# Altium footprint library AD9245BCPZ-40.PcbLib: 1 footprints
Each footprint in its own frame and in the unit in brackets; x right, y up, seen from the top. Pads: shape width x height; smd on the part's side, far side on the other; paste and mask are expansions set on the pad; w line width, h text height; cw(c..) or ccw(c..) is an arc to the next point about the centre after c.
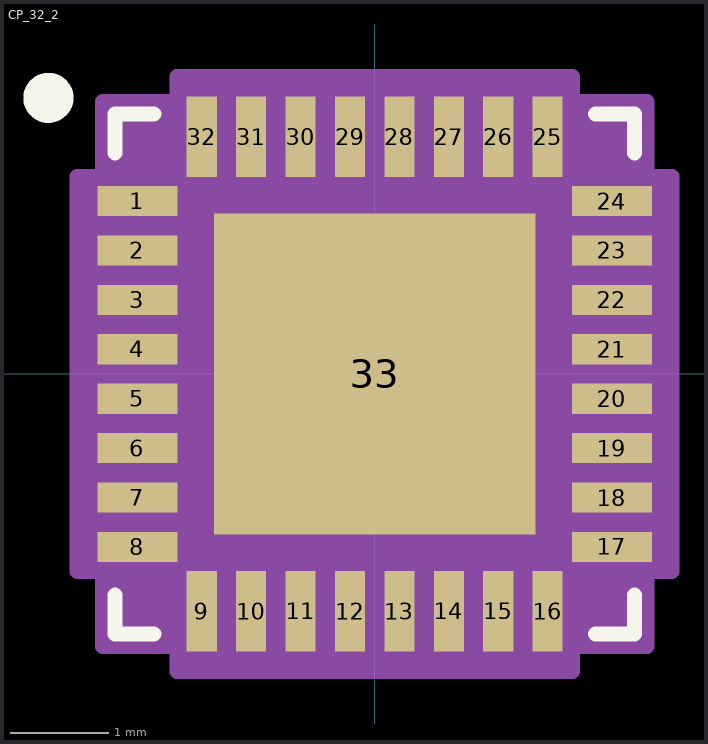
[diagram p0: the footprint, top view; thin cyan lines are the x and y axes]

## CP_32_2 [mil]
pads (33):
  rect 32x12 smd paste+0 mask+0: 1(-94.5,68.9) 2(-94.5,49.21) 3(-94.5,29.53) 4(-94.5,9.84) 5(-94.5,-9.84) 6(-94.5,-29.53) 7(-94.5,-49.21) 8(-94.5,-68.9) 17(94.5,-68.9) 18(94.5,-49.21) 19(94.5,-29.53) 20(94.5,-9.84) 21(94.5,9.84) 22(94.5,29.53) 23(94.5,49.21) 24(94.5,68.9)
  rect 12x32 smd paste+0 mask+0: 9(-68.9,-94.5) 10(-49.21,-94.5) 11(-29.53,-94.5) 12(-9.84,-94.5) 13(9.84,-94.5) 14(29.53,-94.5) 15(49.21,-94.5) 16(68.9,-94.5) 25(68.9,94.5) 26(49.21,94.5) 27(29.53,94.5) 28(9.84,94.5) 29(-9.84,94.5) 30(-29.53,94.5) 31(-49.21,94.5) 32(-68.9,94.5)
  rect 128x128 smd paste-63.5 mask+0: 33(0,0)
Top Overlay:
  circle w10: c-130,110 r5
  lines w6: -103.5,-88 -103.5,-103.5 -88,-103.5 ; -103.5,88 -103.5,103.5 -88,103.5 ; 88,-103.5 103.5,-103.5 103.5,-88 ; 88,103.5 103.5,103.5 103.5,88
Top Paste:
  region: 60.06,-3.94 3.94,-3.94 3.94,-60.06 60.06,-60.06
  region: 60.06,60.06 3.94,60.06 3.94,3.94 60.06,3.94
  region: -3.94,-3.94 -60.06,-3.94 -60.06,-60.06 -3.94,-60.06
  region: -3.94,60.06 -60.06,60.06 -60.06,3.94 -3.94,3.94
Mechanical 13:
  lines w1: -98.5,48.5 -48.5,98.5 ; -98.5,-98.5 -98.5,98.5 98.5,98.5 98.5,-98.5 -98.5,-98.5 ; -98.5,-74.9 -98.5,-62.9 -98.5,-74.9 ; -98.5,-55.21 -98.5,-43.21 -98.5,-55.21 ; -98.5,-35.53 -98.5,-23.53 -98.5,-35.53 ; -98.5,-15.84 -98.5,-3.84 -98.5,-15.84 ; -98.5,3.84 -98.5,15.84 -98.5,3.84 ; -98.5,23.53 -98.5,35.53 -98.5,23.53 ; -98.5,43.21 -98.5,55.21 -98.5,43.21 ; -98.5,62.9 -98.5,74.9 -98.5,62.9 ; -74.9,-98.5 -62.9,-98.5 -74.9,-98.5 ; -74.9,98.5 -62.9,98.5 -74.9,98.5 ; -55.21,-98.5 -43.21,-98.5 -55.21,-98.5 ; -55.21,98.5 -43.21,98.5 -55.21,98.5 ; -35.53,-98.5 -23.53,-98.5 -35.53,-98.5 ; -35.53,98.5 -23.53,98.5 -35.53,98.5 ; -15.84,-98.5 -3.84,-98.5 -15.84,-98.5 ; -15.84,98.5 -3.84,98.5 -15.84,98.5 ; 3.84,-98.5 15.84,-98.5 3.84,-98.5 ; 3.84,98.5 15.84,98.5 3.84,98.5 ; 23.53,-98.5 35.53,-98.5 23.53,-98.5 ; 23.53,98.5 35.53,98.5 23.53,98.5 ; 43.21,-98.5 55.21,-98.5 43.21,-98.5 ; 43.21,98.5 55.21,98.5 43.21,98.5 ; 62.9,-98.5 74.9,-98.5 62.9,-98.5 ; 62.9,98.5 74.9,98.5 62.9,98.5 ; 98.5,-74.9 98.5,-62.9 98.5,-74.9 ; 98.5,-55.21 98.5,-43.21 98.5,-55.21 ; 98.5,-35.53 98.5,-23.53 98.5,-35.53 ; 98.5,-15.84 98.5,-3.84 98.5,-15.84 ; 98.5,3.84 98.5,15.84 98.5,3.84 ; 98.5,23.53 98.5,35.53 98.5,23.53 ; 98.5,43.21 98.5,55.21 98.5,43.21 ; 98.5,62.9 98.5,74.9 98.5,62.9
  text "*" at -91,53.74 h50
Mechanical 15:
  region: -78.74,-108.5 -108.5,-108.5 -108.5,-78.74 -118.5,-78.74 -118.5,78.74 -108.5,78.74 -108.5,108.5 -78.74,108.5 -78.74,118.5 78.74,118.5 78.74,108.5 108.5,108.5 108.5,78.74 118.5,78.74 118.5,-78.74 108.5,-78.74 108.5,-108.5 78.74,-108.5 78.74,-118.5 -78.74,-118.5
  lines w6: -118.5,-78.74 -118.5,78.74 -108.5,78.74 -108.5,108.5 -78.74,108.5 -78.74,118.5 78.74,118.5 78.74,108.5 108.5,108.5 108.5,78.74 118.5,78.74 118.5,-78.74 108.5,-78.74 108.5,-108.5 78.74,-108.5 78.74,-118.5 -78.74,-118.5 -78.74,-108.5 -108.5,-108.5 -108.5,-78.74 -118.5,-78.74
3D body "CP_32_2.stp": height 38.11, standoff 0, extent -98.5,-98.5 98.51,98.51
3D body: height 10, standoff 0, extent 0,0 10,10